# Altium integrated library TI Logic Multiplexer.IntLib: 724 symbols (part 2 of 16)
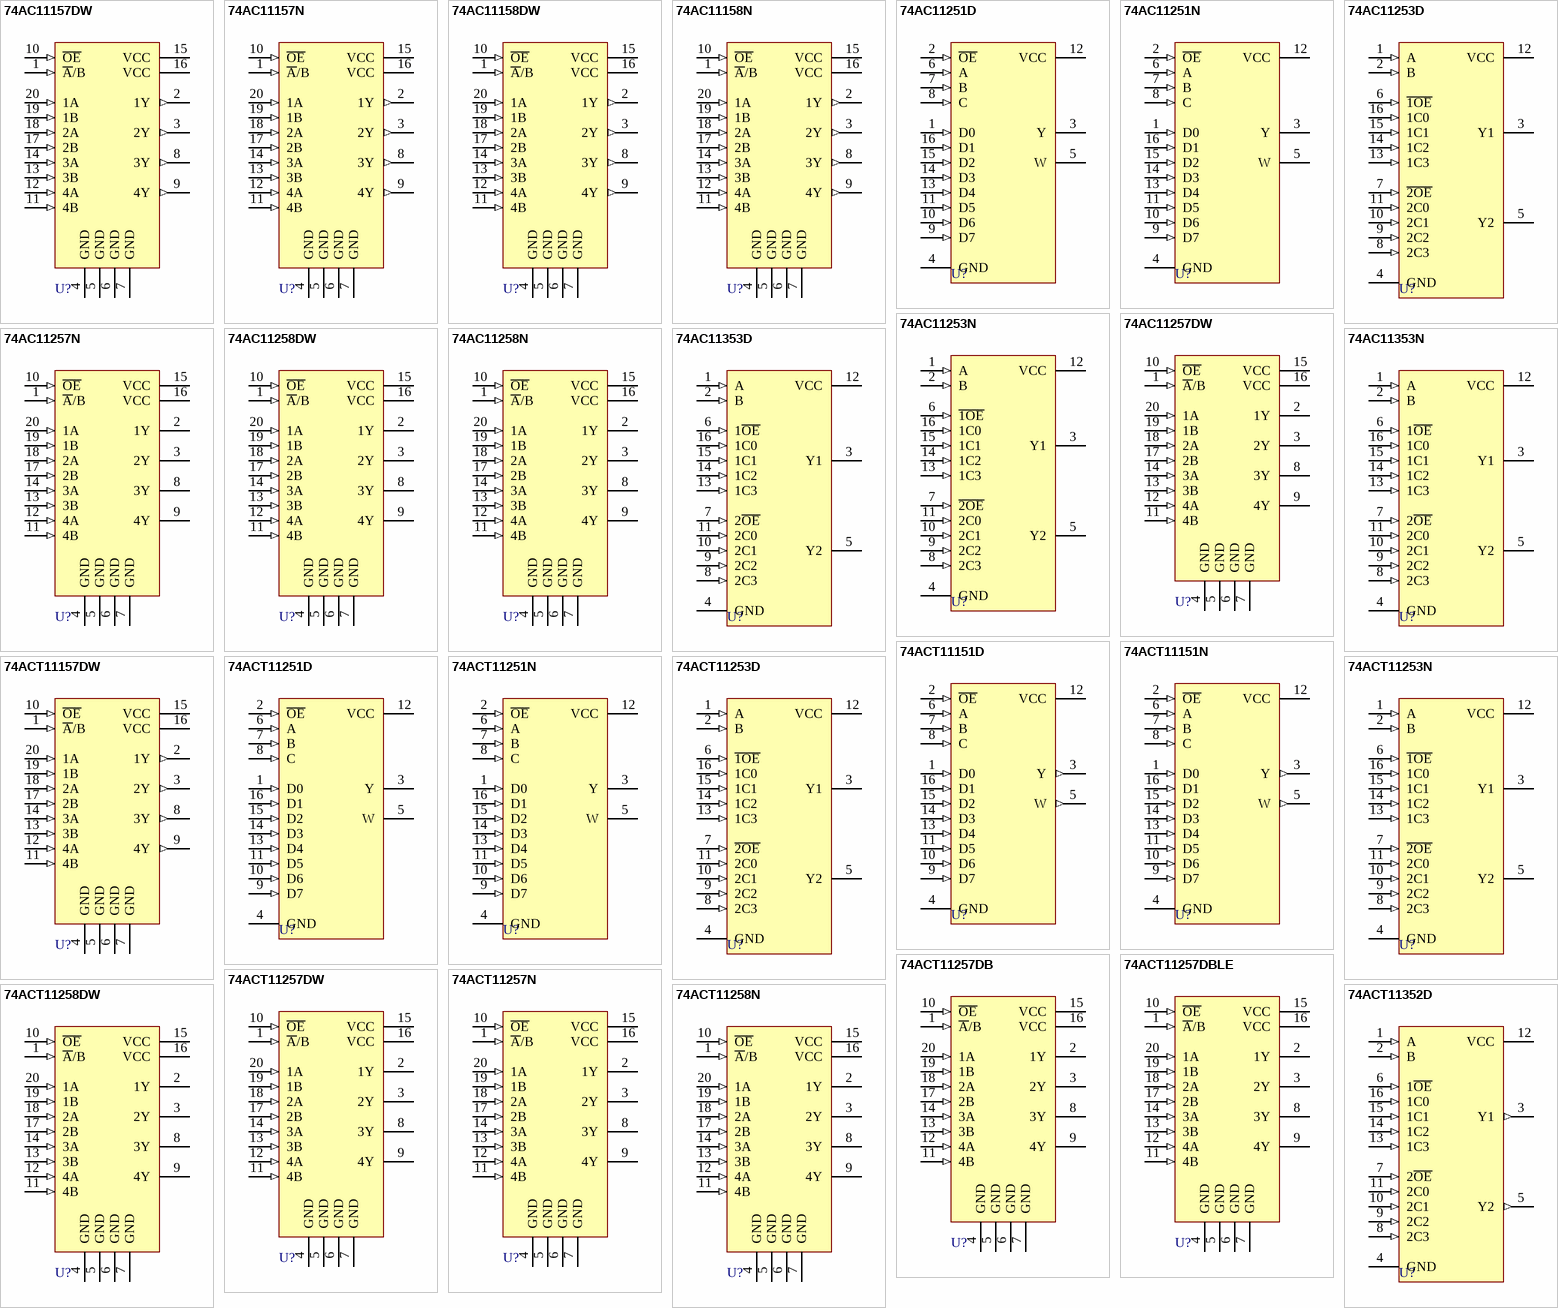
[diagram p25: symbols 74AC11157DW to 74ACT11352D]

## 74ACT11251D
designator U?
1-of-8 Data Selector/Multiplexer with 3-State Outputs; ComponentAvailability: Not Available; Published: 8-Jun-2000; LatestRevisionDate: 13-Apr-2006; LatestRevisionNote: IPC-7351 Footprint Added.; DatasheetVersion: Apr-1993; PackageVersion: Jan-1998; PackageReference: D016; Publisher: Altium Limited; PackageDescription: 16-Pin Small Outline Integrated Circuit 1.27 mm Pitch; Code_IPC: SOIC127P600-16; ComponentLink1Description: Manufacturer Link; ComponentLink1URL: http://www.ti.com/; ComponentLink2Description: Datasheet; ComponentLink2URL: http://www-s.ti.com/sc/ds/74act11251.pdf; ComponentLink3Description: Discontinuation Notice; ComponentLink3URL: http://focus.ti.com/pdfs/mltry/obsolete.pdf
footprint D016_N (SOIC, 16-Leads, Body 9.9x3.9mm, Pitch 1.27mm, IPC Medium Density)
footprint D016_L (SOIC, 16-Leads, Body 9.9x3.9mm, Pitch 1.27mm, IPC High Density)
footprint D016_M (SOIC, 16-Leads, Body 9.9x3.9mm, Pitch 1.27mm, IPC Low Density)
3D model D016 (16-Pin Small Outline Integrated Circuit 1.27 mm Pitch)
signal-integrity model 74ACT11251D
pins: 1 D0 (in), 2 ~{OE} (in), 3 Y (hiz), 4 GND (power), 5 W (hiz), 6 A (in), 7 B (in), 8 C (in), 9 D7 (in), 10 D6 (in), 11 D5 (in), 12 VCC (power), 13 D4 (in), 14 D3 (in), 15 D2 (in), 16 D1 (in)

## 74ACT11251N
designator U?
1-of-8 Data Selector/Multiplexer with 3-State Outputs; ComponentAvailability: Not Available; Published: 8-Jun-2000; LatestRevisionDate: 04-Mar-2005; LatestRevisionNote: Stylized 3D Model Added.; DatasheetVersion: Apr-1993; PackageVersion: Oct-1995; PackageReference: N016; Publisher: Altium Limited; PackageDescription: DIP; 16 Leads; Row Spacing 7.62 mm; Pitch 2.54 mm; Code_JEDEC: MS-001-BB; ComponentLink1Description: Manufacturer Link; ComponentLink1URL: http://www.ti.com/; ComponentLink2Description: Datasheet; ComponentLink2URL: http://www-s.ti.com/sc/ds/74act11251.pdf; ComponentLink3Description: Discontinuation Notice; ComponentLink3URL: http://focus.ti.com/pdfs/mltry/obsolete.pdf
footprint N016 (DIP; 16 Leads; Row Spacing 7.62 mm; Pitch 2.54 mm)
3D model N016 (DIP; 16 Leads; Row Spacing 7.62 mm; Pitch 2.54 mm)
signal-integrity model 74ACT11251N
pins: 1 D0 (in), 2 ~{OE} (in), 3 Y (hiz), 4 GND (power), 5 W (hiz), 6 A (in), 7 B (in), 8 C (in), 9 D7 (in), 10 D6 (in), 11 D5 (in), 12 VCC (power), 13 D4 (in), 14 D3 (in), 15 D2 (in), 16 D1 (in)

## 74ACT11253D
designator U?
Dual 1-of-4 Data Selector/Multiplexer with 3-State Outputs; ComponentAvailability: Not Available; Published: 8-Jun-2000; LatestRevisionDate: 13-Apr-2006; LatestRevisionNote: IPC-7351 Footprint Added.; DatasheetVersion: Apr-1993; PackageVersion: Jan-1998; PackageReference: D016; Publisher: Altium Limited; PackageDescription: 16-Pin Small Outline Integrated Circuit 1.27 mm Pitch; Code_IPC: SOIC127P600-16; ComponentLink1Description: Manufacturer Link; ComponentLink1URL: http://www.ti.com/; ComponentLink2Description: Datasheet; ComponentLink2URL: http://www-s.ti.com/sc/ds/74act11253.pdf; ComponentLink3Description: Discontinuation Notice; ComponentLink3URL: http://focus.ti.com/pdfs/mltry/obsolete.pdf
footprint D016_N (SOIC, 16-Leads, Body 9.9x3.9mm, Pitch 1.27mm, IPC Medium Density)
footprint D016_L (SOIC, 16-Leads, Body 9.9x3.9mm, Pitch 1.27mm, IPC High Density)
footprint D016_M (SOIC, 16-Leads, Body 9.9x3.9mm, Pitch 1.27mm, IPC Low Density)
3D model D016 (16-Pin Small Outline Integrated Circuit 1.27 mm Pitch)
signal-integrity model 74ACT11253D
pins: 1 A (in), 2 B (in), 3 Y1 (hiz), 4 GND (power), 5 Y2 (hiz), 6 ~{1OE} (in), 7 ~{2OE} (in), 8 2C3 (in), 9 2C2 (in), 10 2C1 (in), 11 2C0 (in), 12 VCC (power), 13 1C3 (in), 14 1C2 (in), 15 1C1 (in), 16 1C0 (in)

## 74ACT11253N
designator U?
Dual 1-of-4 Data Selector/Multiplexer with 3-State Outputs; ComponentAvailability: Not Available; Published: 8-Jun-2000; LatestRevisionDate: 04-Mar-2005; LatestRevisionNote: Stylized 3D Model Added.; DatasheetVersion: Apr-1993; PackageVersion: Oct-1995; PackageReference: N016; Publisher: Altium Limited; PackageDescription: DIP; 16 Leads; Row Spacing 7.62 mm; Pitch 2.54 mm; Code_JEDEC: MS-001-BB; ComponentLink1Description: Manufacturer Link; ComponentLink1URL: http://www.ti.com/; ComponentLink2Description: Datasheet; ComponentLink2URL: http://www-s.ti.com/sc/ds/74act11253.pdf; ComponentLink3Description: Discontinuation Notice; ComponentLink3URL: http://focus.ti.com/pdfs/mltry/obsolete.pdf
footprint N016 (DIP; 16 Leads; Row Spacing 7.62 mm; Pitch 2.54 mm)
3D model N016 (DIP; 16 Leads; Row Spacing 7.62 mm; Pitch 2.54 mm)
signal-integrity model 74ACT11253N
pins: 1 A (in), 2 B (in), 3 Y1 (hiz), 4 GND (power), 5 Y2 (hiz), 6 ~{1OE} (in), 7 ~{2OE} (in), 8 2C3 (in), 9 2C2 (in), 10 2C1 (in), 11 2C0 (in), 12 VCC (power), 13 1C3 (in), 14 1C2 (in), 15 1C1 (in), 16 1C0 (in)

## 74ACT11257DB
designator U?
Quadruple 2-Line to 1-Line Data Selector/Multiplexer with 3-State Outputs; Published: 8-Jun-2000; LatestRevisionDate: 29-Mar-2007; LatestRevisionNote: IPC-7351 Footprint Added.; DatasheetVersion: Apr-1996; PackageVersion: May-1999; PackageReference: DB020; Publisher: Altium Limited; PackageDescription: 20-Pin Plastic Small Outline Package 0.65 mm Pitch; Code_JEDEC: MO-150-AE; Code_IPC: SOP65P780-20; ComponentLink1Description: Manufacturer Link; ComponentLink1URL: http://www.ti.com/; ComponentLink2Description: Datasheet; ComponentLink2URL: http://www-s.ti.com/sc/ds/74act11257.pdf
footprint DB020_N (SOP, 20-Leads, Body 7.2x5.3mm, Pitch 0.65mm, IPC Medium Density)
footprint DB020_L (SOP, 20-Leads, Body 7.2x5.3mm, Pitch 0.65mm, IPC High Density)
footprint DB020_M (SOP, 20-Leads, Body 7.2x5.3mm, Pitch 0.65mm, IPC Low Density)
3D model DB020 (20-Pin Plastic Small Outline Package 0.65 mm Pitch)
signal-integrity model 74ACT11257DB
pins: 1 ~{A}/B (in), 2 1Y (hiz), 3 2Y (hiz), 4 GND (power), 5 GND (power), 6 GND (power), 7 GND (power), 8 3Y (hiz), 9 4Y (hiz), 10 ~{OE} (in), 11 4B (in), 12 4A (in), 13 3B (in), 14 3A (in), 15 VCC (power), 16 VCC (power), 17 2B (in), 18 2A (in), 19 1B (in), 20 1A (in)

## 74ACT11257DBLE
designator U?
Quadruple 2-Line to 1-Line Data Selector/Multiplexer with 3-State Outputs; Published: 8-Jun-2000; LatestRevisionDate: 29-Mar-2007; LatestRevisionNote: IPC-7351 Footprint Added.; DatasheetVersion: Apr-1996; PackageVersion: May-1999; PackageReference: DB020; Publisher: Altium Limited; PackageDescription: 20-Pin Plastic Small Outline Package 0.65 mm Pitch; Code_JEDEC: MO-150-AE; Code_IPC: SOP65P780-20; ComponentLink1Description: Manufacturer Link; ComponentLink1URL: http://www.ti.com/; ComponentLink2Description: Datasheet; ComponentLink2URL: http://www-s.ti.com/sc/ds/74act11257.pdf
footprint DB020_N (SOP, 20-Leads, Body 7.2x5.3mm, Pitch 0.65mm, IPC Medium Density)
footprint DB020_L (SOP, 20-Leads, Body 7.2x5.3mm, Pitch 0.65mm, IPC High Density)
footprint DB020_M (SOP, 20-Leads, Body 7.2x5.3mm, Pitch 0.65mm, IPC Low Density)
3D model DB020 (20-Pin Plastic Small Outline Package 0.65 mm Pitch)
signal-integrity model 74ACT11257DBLE
pins: 1 ~{A}/B (in), 2 1Y (hiz), 3 2Y (hiz), 4 GND (power), 5 GND (power), 6 GND (power), 7 GND (power), 8 3Y (hiz), 9 4Y (hiz), 10 ~{OE} (in), 11 4B (in), 12 4A (in), 13 3B (in), 14 3A (in), 15 VCC (power), 16 VCC (power), 17 2B (in), 18 2A (in), 19 1B (in), 20 1A (in)

## 74ACT11257DW
designator U?
Quadruple 2-Line to 1-Line Data Selector/Multiplexer with 3-State Outputs; Published: 8-Jun-2000; LatestRevisionDate: 13-Apr-2006; LatestRevisionNote: IPC-7351 Footprint Added.; DatasheetVersion: Apr-1996; PackageVersion: Mar-2000; PackageReference: DW020; Publisher: Altium Limited; PackageDescription: 20-Pin Plastic Small Outline Integrated Circuit 1.27 mm Pitch; Code_JEDEC: MS-013; Code_IPC: SOIC127P1030-20; ComponentLink1Description: Manufacturer Link; ComponentLink1URL: http://www.ti.com/; ComponentLink2Description: Datasheet; ComponentLink2URL: http://www-s.ti.com/sc/ds/74act11257.pdf
footprint DW020_N (SOIC, 20-Leads, Body 12.8x7.5mm, Pitch 1.27mm, IPC Medium Density)
footprint DW020_L (SOIC, 20-Leads, Body 12.8x7.5mm, Pitch 1.27mm, IPC High Density)
footprint DW020_M (SOIC, 20-Leads, Body 12.8x7.5mm, Pitch 1.27mm, IPC Low Density)
3D model DW020 (20-Pin Plastic Small Outline Integrated Circuit 1.27 mm Pitch)
signal-integrity model 74ACT11257DW
pins: 1 ~{A}/B (in), 2 1Y (hiz), 3 2Y (hiz), 4 GND (power), 5 GND (power), 6 GND (power), 7 GND (power), 8 3Y (hiz), 9 4Y (hiz), 10 ~{OE} (in), 11 4B (in), 12 4A (in), 13 3B (in), 14 3A (in), 15 VCC (power), 16 VCC (power), 17 2B (in), 18 2A (in), 19 1B (in), 20 1A (in)

## 74ACT11257N
designator U?
Quadruple 2-Line to 1-Line Data Selector/Multiplexer with 3-State Outputs; Published: 8-Jun-2000; LatestRevisionDate: 04-Mar-2005; LatestRevisionNote: Stylized 3D Model Added.; DatasheetVersion: Apr-1996; PackageVersion: Oct-1995; PackageReference: N020; Publisher: Altium Limited; PackageDescription: DIP; 20 Leads; Row Spacing 7.62 mm; Pitch 2.54 mm; ComponentLink1Description: Manufacturer Link; ComponentLink1URL: http://www.ti.com/; ComponentLink2Description: Datasheet; ComponentLink2URL: http://www-s.ti.com/sc/ds/74act11257.pdf
footprint N020 (DIP; 20 Leads; Row Spacing 7.62 mm; Pitch 2.54 mm)
3D model J020 (DIP; 20 Leads; Row Spacing 7.62 mm; Pitch 2.54 mm)
signal-integrity model 74ACT11257N
pins: 1 ~{A}/B (in), 2 1Y (hiz), 3 2Y (hiz), 4 GND (power), 5 GND (power), 6 GND (power), 7 GND (power), 8 3Y (hiz), 9 4Y (hiz), 10 ~{OE} (in), 11 4B (in), 12 4A (in), 13 3B (in), 14 3A (in), 15 VCC (power), 16 VCC (power), 17 2B (in), 18 2A (in), 19 1B (in), 20 1A (in)

## 74ACT11258DW
designator U?
Quadruple 2-Line to 1-Line Data Selector/Multiplexer with 3-State Outputs; ComponentAvailability: Not Available; Published: 8-Jun-2000; LatestRevisionDate: 13-Apr-2006; LatestRevisionNote: IPC-7351 Footprint Added.; DatasheetVersion: Apr-1993; PackageVersion: Mar-2000; PackageReference: DW020; Publisher: Altium Limited; PackageDescription: 20-Pin Plastic Small Outline Integrated Circuit 1.27 mm Pitch; Code_JEDEC: MS-013; Code_IPC: SOIC127P1030-20; ComponentLink1Description: Manufacturer Link; ComponentLink1URL: http://www.ti.com/; ComponentLink2Description: Datasheet; ComponentLink2URL: http://www-s.ti.com/sc/ds/74act11258.pdf; ComponentLink3Description: Discontinuation Notice; ComponentLink3URL: http://focus.ti.com/pdfs/mltry/obsolete.pdf
footprint DW020_N (SOIC, 20-Leads, Body 12.8x7.5mm, Pitch 1.27mm, IPC Medium Density)
footprint DW020_L (SOIC, 20-Leads, Body 12.8x7.5mm, Pitch 1.27mm, IPC High Density)
footprint DW020_M (SOIC, 20-Leads, Body 12.8x7.5mm, Pitch 1.27mm, IPC Low Density)
3D model DW020 (20-Pin Plastic Small Outline Integrated Circuit 1.27 mm Pitch)
signal-integrity model 74ACT11258DW
pins: 1 ~{A}/B (in), 2 1Y (hiz), 3 2Y (hiz), 4 GND (power), 5 GND (power), 6 GND (power), 7 GND (power), 8 3Y (hiz), 9 4Y (hiz), 10 ~{OE} (in), 11 4B (in), 12 4A (in), 13 3B (in), 14 3A (in), 15 VCC (power), 16 VCC (power), 17 2B (in), 18 2A (in), 19 1B (in), 20 1A (in)

## 74ACT11258N
designator U?
Quadruple 2-Line to 1-Line Data Selector/Multiplexer with 3-State Outputs; ComponentAvailability: Not Available; Published: 8-Jun-2000; LatestRevisionDate: 04-Mar-2005; LatestRevisionNote: Stylized 3D Model Added.; DatasheetVersion: Apr-1993; PackageVersion: Oct-1995; PackageReference: N020; Publisher: Altium Limited; PackageDescription: DIP; 20 Leads; Row Spacing 7.62 mm; Pitch 2.54 mm; ComponentLink1Description: Manufacturer Link; ComponentLink1URL: http://www.ti.com/; ComponentLink2Description: Datasheet; ComponentLink2URL: http://www-s.ti.com/sc/ds/74act11258.pdf; ComponentLink3Description: Discontinuation Notice; ComponentLink3URL: http://focus.ti.com/pdfs/mltry/obsolete.pdf
footprint N020 (DIP; 20 Leads; Row Spacing 7.62 mm; Pitch 2.54 mm)
3D model J020 (DIP; 20 Leads; Row Spacing 7.62 mm; Pitch 2.54 mm)
signal-integrity model 74ACT11258N
pins: 1 ~{A}/B (in), 2 1Y (hiz), 3 2Y (hiz), 4 GND (power), 5 GND (power), 6 GND (power), 7 GND (power), 8 3Y (hiz), 9 4Y (hiz), 10 ~{OE} (in), 11 4B (in), 12 4A (in), 13 3B (in), 14 3A (in), 15 VCC (power), 16 VCC (power), 17 2B (in), 18 2A (in), 19 1B (in), 20 1A (in)

## 74ACT11352D
designator U?
Dual 4-Line to 1-Line Data Selector/Multiplexer; ComponentAvailability: Not Available; Published: 8-Jun-2000; LatestRevisionDate: 13-Apr-2006; LatestRevisionNote: IPC-7351 Footprint Added.; DatasheetVersion: Apr-1993; PackageVersion: Jan-1998; PackageReference: D016; Publisher: Altium Limited; PackageDescription: 16-Pin Small Outline Integrated Circuit 1.27 mm Pitch; Code_IPC: SOIC127P600-16; ComponentLink1Description: Manufacturer Link; ComponentLink1URL: http://www.ti.com/; ComponentLink2Description: Datasheet; ComponentLink2URL: http://www-s.ti.com/sc/ds/74act11352.pdf; ComponentLink3Description: Discontinuation Notice; ComponentLink3URL: http://focus.ti.com/pdfs/mltry/obsolete.pdf
footprint D016_N (SOIC, 16-Leads, Body 9.9x3.9mm, Pitch 1.27mm, IPC Medium Density)
footprint D016_L (SOIC, 16-Leads, Body 9.9x3.9mm, Pitch 1.27mm, IPC High Density)
footprint D016_M (SOIC, 16-Leads, Body 9.9x3.9mm, Pitch 1.27mm, IPC Low Density)
3D model D016 (16-Pin Small Outline Integrated Circuit 1.27 mm Pitch)
signal-integrity model 74ACT11352D
pins: 1 A (in), 2 B (in), 3 Y1 (out), 4 GND (power), 5 Y2 (out), 6 1~{OE} (in), 7 2~{OE} (in), 8 2C3 (in), 9 2C2 (in), 10 2C1 (in), 11 2C0 (in), 12 VCC (power), 13 1C3 (in), 14 1C2 (in), 15 1C1 (in), 16 1C0 (in)

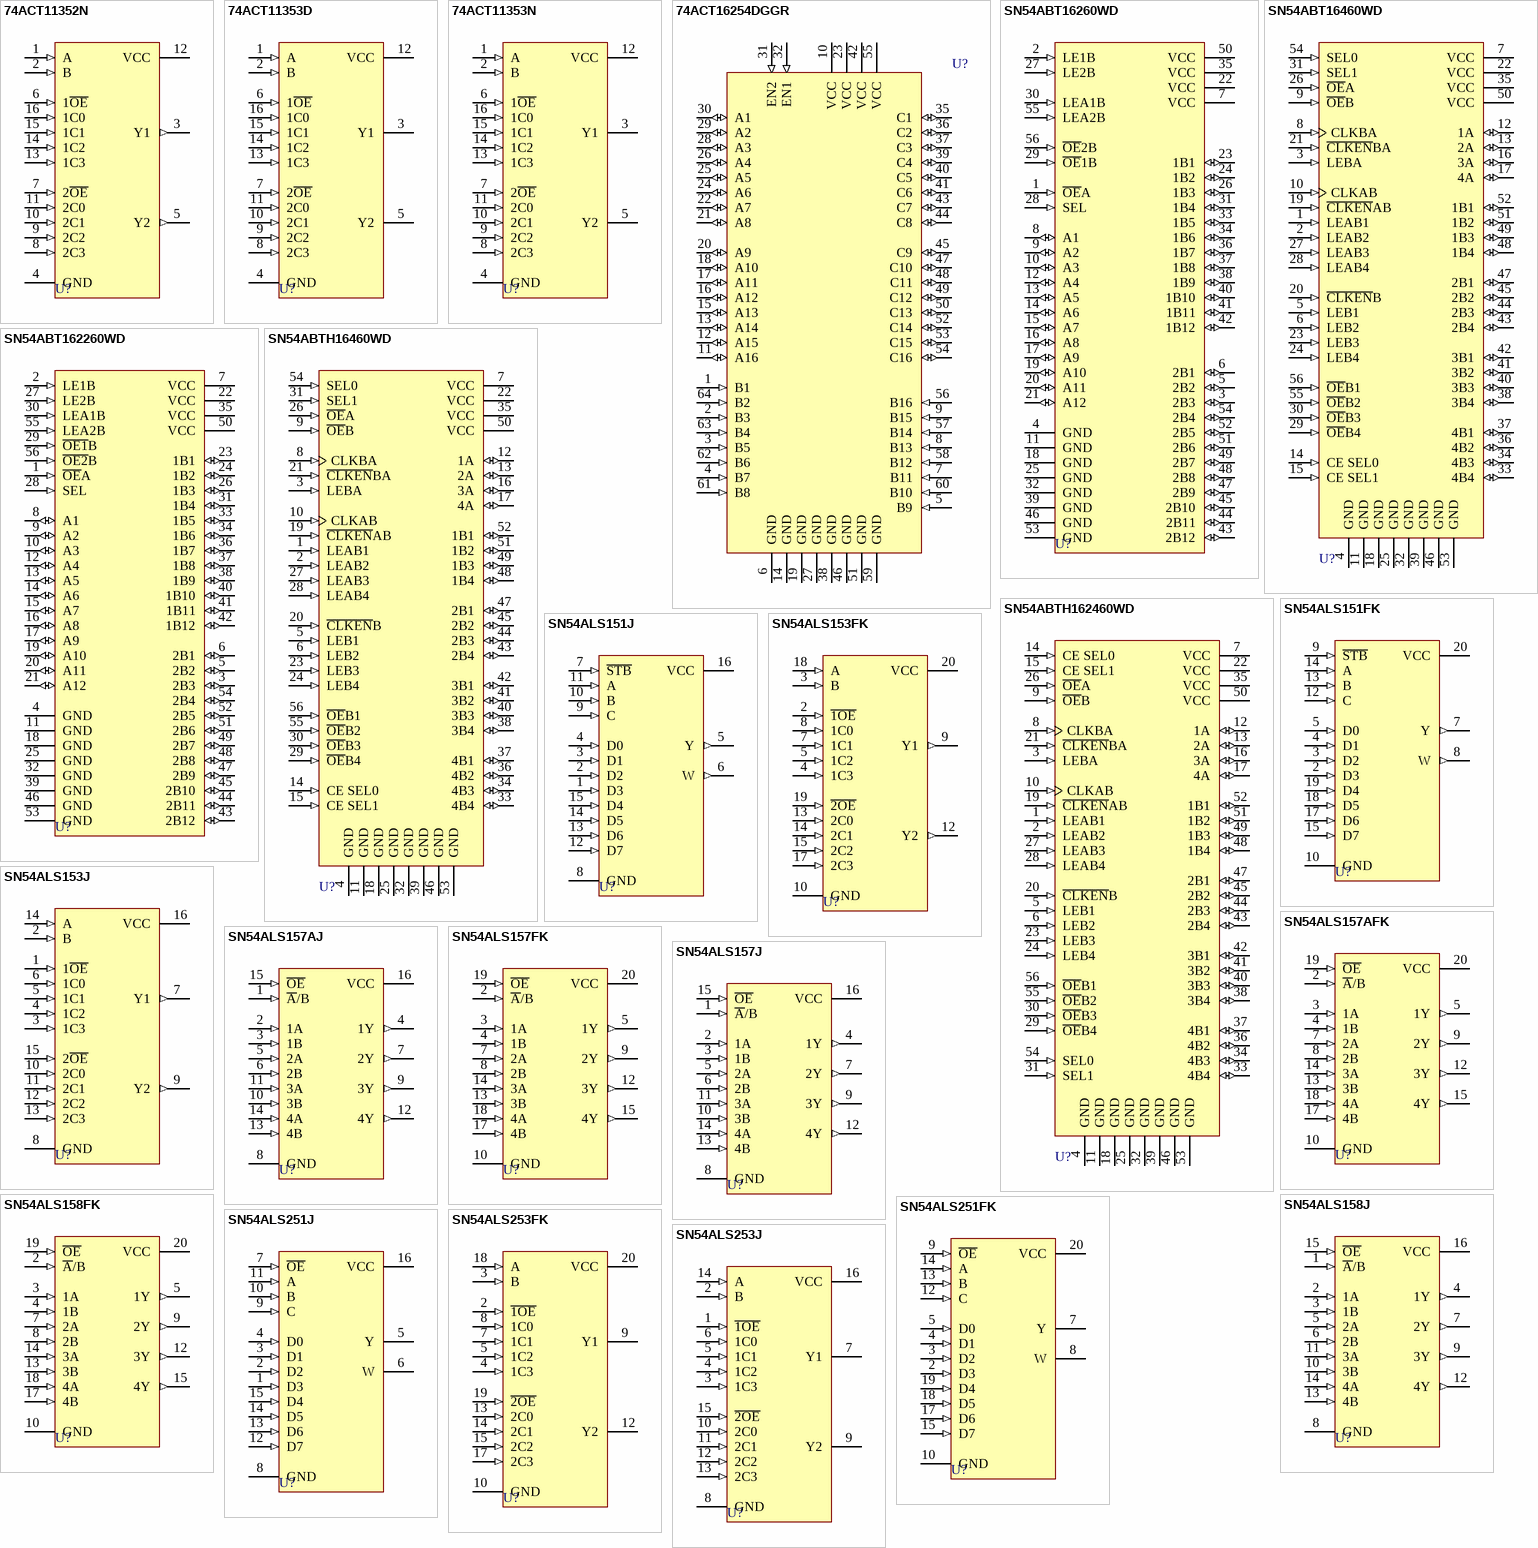
[diagram p2: symbols 74ACT11352N to SN54ALS253J]

## 74ACT11352N
designator U?
Dual 4-Line to 1-Line Data Selector/Multiplexer; ComponentAvailability: Not Available; Published: 8-Jun-2000; LatestRevisionDate: 04-Mar-2005; LatestRevisionNote: Stylized 3D Model Added.; DatasheetVersion: Apr-1993; PackageVersion: Oct-1995; PackageReference: N016; Publisher: Altium Limited; PackageDescription: DIP; 16 Leads; Row Spacing 7.62 mm; Pitch 2.54 mm; Code_JEDEC: MS-001-BB; ComponentLink1Description: Manufacturer Link; ComponentLink1URL: http://www.ti.com/; ComponentLink2Description: Datasheet; ComponentLink2URL: http://www-s.ti.com/sc/ds/74act11352.pdf; ComponentLink3Description: Discontinuation Notice; ComponentLink3URL: http://focus.ti.com/pdfs/mltry/obsolete.pdf
footprint N016 (DIP; 16 Leads; Row Spacing 7.62 mm; Pitch 2.54 mm)
3D model N016 (DIP; 16 Leads; Row Spacing 7.62 mm; Pitch 2.54 mm)
signal-integrity model 74ACT11352N
pins: 1 A (in), 2 B (in), 3 Y1 (out), 4 GND (power), 5 Y2 (out), 6 1~{OE} (in), 7 2~{OE} (in), 8 2C3 (in), 9 2C2 (in), 10 2C1 (in), 11 2C0 (in), 12 VCC (power), 13 1C3 (in), 14 1C2 (in), 15 1C1 (in), 16 1C0 (in)

## 74ACT11353D
designator U?
Dual 1-of-4 Data Selector/Multiplexer with 3- State Outputs; ComponentAvailability: Not Available; Published: 8-Jun-2000; LatestRevisionDate: 13-Apr-2006; LatestRevisionNote: IPC-7351 Footprint Added.; DatasheetVersion: Mar-1990; PackageVersion: Jan-1998; PackageReference: D016; Publisher: Altium Limited; PackageDescription: 16-Pin Small Outline Integrated Circuit 1.27 mm Pitch; Code_IPC: SOIC127P600-16; ComponentLink1Description: Manufacturer Link; ComponentLink1URL: http://www.ti.com/; ComponentLink2Description: Datasheet; ComponentLink2URL: http://www-s.ti.com/sc/ds/74act11353.pdf; ComponentLink3Description: Discontinuation Notice; ComponentLink3URL: http://focus.ti.com/pdfs/mltry/obsolete.pdf
footprint D016_N (SOIC, 16-Leads, Body 9.9x3.9mm, Pitch 1.27mm, IPC Medium Density)
footprint D016_L (SOIC, 16-Leads, Body 9.9x3.9mm, Pitch 1.27mm, IPC High Density)
footprint D016_M (SOIC, 16-Leads, Body 9.9x3.9mm, Pitch 1.27mm, IPC Low Density)
3D model D016 (16-Pin Small Outline Integrated Circuit 1.27 mm Pitch)
signal-integrity model 74ACT11353D
pins: 1 A (in), 2 B (in), 3 Y1 (hiz), 4 GND (power), 5 Y2 (hiz), 6 1~{OE} (in), 7 2~{OE} (in), 8 2C3 (in), 9 2C2 (in), 10 2C1 (in), 11 2C0 (in), 12 VCC (power), 13 1C3 (in), 14 1C2 (in), 15 1C1 (in), 16 1C0 (in)

## 74ACT11353N
designator U?
Dual 1-of-4 Data Selector/Multiplexer with 3- State Outputs; ComponentAvailability: Not Available; Published: 8-Jun-2000; LatestRevisionDate: 04-Mar-2005; LatestRevisionNote: Stylized 3D Model Added.; DatasheetVersion: Mar-1990; PackageVersion: Oct-1995; PackageReference: N016D; Publisher: Altium Limited; PackageDescription: DIP; 16 Leads; Row Spacing 7.62 mm; Pitch 2.54 mm; Code_JEDEC: MS-001-BB; ComponentLink1Description: Manufacturer Link; ComponentLink1URL: http://www.ti.com/; ComponentLink2Description: Datasheet; ComponentLink2URL: http://www-s.ti.com/sc/ds/74act11353.pdf; ComponentLink3Description: Discontinuation Notice; ComponentLink3URL: http://focus.ti.com/pdfs/mltry/obsolete.pdf
footprint N016D (DIP; 16 Leads; Row Spacing 7.62 mm; Pitch 2.54 mm)
3D model N016 (DIP; 16 Leads; Row Spacing 7.62 mm; Pitch 2.54 mm)
signal-integrity model 74ACT11353N
pins: 1 A (in), 2 B (in), 3 Y1 (hiz), 4 GND (power), 5 Y2 (hiz), 6 1~{OE} (in), 7 2~{OE} (in), 8 2C3 (in), 9 2C2 (in), 10 2C1 (in), 11 2C0 (in), 12 VCC (power), 13 1C3 (in), 14 1C2 (in), 15 1C1 (in), 16 1C0 (in)

## 74ACT16254DGGR
designator U?
16-Bit Address/Data Multiplexer with 3-State Outputs; Note: Pins No 33 and 34 are not connected; ComponentAvailability: Not Available; Published: 8-Jun-2000; LatestRevisionDate: 29-Mar-2007; LatestRevisionNote: IPC-7351 Footprint Added.; DatasheetVersion: Nov-1995; PackageVersion: Jan-1998; PackageReference: DGG064; Publisher: Altium Limited; PackageDescription: 64-Pin Thin Shrink Small Outline Package 0.5 mm Pitch; Code_JEDEC: MO-153; Code_IPC: TSSOP50P810-64; ComponentLink1Description: Manufacturer Link; ComponentLink1URL: http://www.ti.com/; ComponentLink2Description: Datasheet; ComponentLink2URL: http://www-s.ti.com/sc/ds/74act16254.pdf
footprint DGG064_N (TSSOP, 64-Leads, Body 17x6.1mm, Pitch 0.5mm, IPC Medium Density)
footprint DGG064_L (TSSOP, 64-Leads, Body 17x6.1mm, Pitch 0.5mm, IPC High Density)
footprint DGG064_M (TSSOP, 64-Leads, Body 17x6.1mm, Pitch 0.5mm, IPC Low Density)
3D model DGG064 (64-Pin Thin Shrink Small Outline Package 0.5 mm Pitch)
signal-integrity model 74ACT16254DGGR
pins: 1 B1 (in), 2 B3 (in), 3 B5 (in), 4 B7 (in), 5 B9 (in), 6 GND (power), 7 B11 (in), 8 B13 (in), 9 B15 (in), 10 VCC (power), 11 A16 (io), 12 A15 (io), 13 A14 (io), 14 GND (power), 15 A13 (io), 16 A12 (io), 17 A11 (io), 18 A10 (io), 19 GND (power), 20 A9 (io), 21 A8 (io), 22 A7 (io), 23 VCC (power), 24 A6 (io), 25 A5 (io), 26 A4 (io), 27 GND (power), 28 A3 (io), 29 A2 (io), 30 A1 (io), 31 EN2 (in), 32 EN1 (in), 35 C1 (io), 36 C2 (io), 37 C3 (io), 38 GND (power), 39 C4 (io), 40 C5 (io), 41 C6 (io), 42 VCC (power), 43 C7 (io), 44 C8 (io), 45 C9 (io), 46 GND (power), 47 C10 (io), 48 C11 (io), 49 C12 (io), 50 C13 (io), 51 GND (power), 52 C14 (io), 53 C15 (io), 54 C16 (io), 55 VCC (power), 56 B16 (in), 57 B14 (in), 58 B12 (in), 59 GND (power), 60 B10 (in), 61 B8 (in), 62 B6 (in), 63 B4 (in), 64 B2 (in)

## SN54ABT16260WD
designator U?
12-Bit to 24-Bit Multiplexed D-Type Latch with 3-State Outputs; ComponentAvailability: Not Available; Published: 8-Jun-2000; LatestRevisionDate: 04-Mar-2005; LatestRevisionNote: Stylized 3D Model Added.; DatasheetVersion: May-1997; PackageVersion: Jan-1998; PackageReference: WD056; Publisher: Altium Limited; PackageDescription: DFP; 56 Leads; Body 18.8 x 9.9 mm (LxW max); Pitch 0.635 mm; Code_JEDEC: MO-146-AB; ComponentLink1Description: Manufacturer Link; ComponentLink1URL: http://www.ti.com/; ComponentLink2Description: Datasheet; ComponentLink2URL: http://www-s.ti.com/sc/ds/sn54abt16260.pdf; ComponentLink3Description: Discontinuation Notice; ComponentLink3URL: http://focus.ti.com/pdfs/mltry/obsolete.pdf
footprint WD056 (DFP; 56 Leads; Body 18.8 x 9.9 mm (LxW max); Pitch 0.635 mm)
3D model WD056 (DFP; 56 Leads; Body 18.8 x 9.9 mm (LxW max); Pitch 0.635 mm)
signal-integrity model SN54ABT16260WD
pins: 1 ~{OE}A (in), 2 LE1B (in), 3 2B3 (io), 4 GND (power), 5 2B2 (io), 6 2B1 (io), 7 VCC (power), 8 A1 (io), 9 A2 (io), 10 A3 (io), 11 GND (power), 12 A4 (io), 13 A5 (io), 14 A6 (io), 15 A7 (io), 16 A8 (io), 17 A9 (io), 18 GND (power), 19 A10 (io), 20 A11 (io), 21 A12 (io), 22 VCC (power), 23 1B1 (io), 24 1B2 (io), 25 GND (power), 26 1B3 (io), 27 LE2B (in), 28 SEL (in), 29 ~{OE}1B (in), 30 LEA1B (in), 31 1B4 (io), 32 GND (power), 33 1B5 (io), 34 1B6 (io), 35 VCC (power), 36 1B7 (io), 37 1B8 (io), 38 1B9 (io), 39 GND (power), 40 1B10 (io), 41 1B11 (io), 42 1B12 (io), 43 2B12 (io), 44 2B11 (io), 45 2B10 (io), 46 GND (power), 47 2B9 (io), 48 2B8 (io), 49 2B7 (io), 50 VCC (power), 51 2B6 (io), 52 2B5 (io), 53 GND (power), 54 2B4 (io), 55 LEA2B (in), 56 ~{OE}2B (in)

## SN54ABT16460WD
designator U?
4-to-1 Multiplexed/Demultiplexed Transceivers with 3-State Outputs; Published: 8-Jun-2000; LatestRevisionDate: 04-Mar-2005; LatestRevisionNote: Stylized 3D Model Added.; DatasheetVersion: Jul-1994; PackageVersion: Jan-1998; PackageReference: WD056; Publisher: Altium Limited; PackageDescription: DFP; 56 Leads; Body 18.8 x 9.9 mm (LxW max); Pitch 0.635 mm; Code_JEDEC: MO-146-AB; ComponentLink1Description: Manufacturer Link; ComponentLink1URL: http://www.ti.com/
footprint WD056 (DFP; 56 Leads; Body 18.8 x 9.9 mm (LxW max); Pitch 0.635 mm)
3D model WD056 (DFP; 56 Leads; Body 18.8 x 9.9 mm (LxW max); Pitch 0.635 mm)
signal-integrity model SN54ABT16460WD
pins: 1 LEAB1 (in), 2 LEAB2 (in), 3 LEBA (in), 4 GND (power), 5 LEB1 (in), 6 LEB2 (in), 7 VCC (power), 8 CLKBA (in), 9 ~{OE}B (in), 10 CLKAB (in), 11 GND (power), 12 1A (io), 13 2A (io), 14 CE SEL0 (in), 15 CE SEL1 (in), 16 3A (io), 17 4A (io), 18 GND (power), 19 ~{CLKEN}AB (in), 20 ~{CLKEN}B (in), 21 ~{CLKEN}BA (in), 22 VCC (power), 23 LEB3 (in), 24 LEB4 (in), 25 GND (power), 26 ~{OE}A (in), 27 LEAB3 (in), 28 LEAB4 (in), 29 ~{OE}B4 (in), 30 ~{OE}B3 (in), 31 SEL1 (in), 32 GND (power), 33 4B4 (io), 34 4B3 (io), 35 VCC (power), 36 4B2 (io), 37 4B1 (io), 38 3B4 (io), 39 GND (power), 40 3B3 (io), 41 3B2 (io), 42 3B1 (io), 43 2B4 (io), 44 2B3 (io), 45 2B2 (io), 46 GND (power), 47 2B1 (io), 48 1B4 (io), 49 1B3 (io), 50 VCC (power), 51 1B2 (io), 52 1B1 (io), 53 GND (power), 54 SEL0 (in), 55 ~{OE}B2 (in), 56 ~{OE}B1 (in)

## SN54ABT162260WD
designator U?
12-Bit to 24-Bit Multiplexed D-Type Latch with Series-Damping Resistor and 3-State Outputs; Published: 8-Jun-2000; LatestRevisionDate: 04-Mar-2005; LatestRevisionNote: Stylized 3D Model Added.; DatasheetVersion: Jul-1994; PackageVersion: Jan-1998; PackageReference: WD056; Publisher: Altium Limited; PackageDescription: DFP; 56 Leads; Body 18.8 x 9.9 mm (LxW max); Pitch 0.635 mm; Code_JEDEC: MO-146-AB; ComponentLink1Description: Manufacturer Link; ComponentLink1URL: http://www.ti.com/
footprint WD056 (DFP; 56 Leads; Body 18.8 x 9.9 mm (LxW max); Pitch 0.635 mm)
3D model WD056 (DFP; 56 Leads; Body 18.8 x 9.9 mm (LxW max); Pitch 0.635 mm)
signal-integrity model SN54ABT162260WD
pins: 1 ~{OE}A (in), 2 LE1B (in), 3 2B3 (io), 4 GND (power), 5 2B2 (io), 6 2B1 (io), 7 VCC (power), 8 A1 (io), 9 A2 (io), 10 A3 (io), 11 GND (power), 12 A4 (io), 13 A5 (io), 14 A6 (io), 15 A7 (io), 16 A8 (io), 17 A9 (io), 18 GND (power), 19 A10 (io), 20 A11 (io), 21 A12 (io), 22 VCC (power), 23 1B1 (io), 24 1B2 (io), 25 GND (power), 26 1B3 (io), 27 LE2B (in), 28 SEL (in), 29 ~{OE1}B (in), 30 LEA1B (in), 31 1B4 (io), 32 GND (power), 33 1B5 (io), 34 1B6 (io), 35 VCC (power), 36 1B7 (io), 37 1B8 (io), 38 1B9 (io), 39 GND (power), 40 1B10 (io), 41 1B11 (io), 42 1B12 (io), 43 2B12 (io), 44 2B11 (io), 45 2B10 (io), 46 GND (power), 47 2B9 (io), 48 2B8 (io), 49 2B7 (io), 50 VCC (power), 51 2B6 (io), 52 2B5 (io), 53 GND (power), 54 2B4 (io), 55 LEA2B (in), 56 ~{OE2}B (in)

## SN54ABTH16460WD
designator U?
4-to-1 Multiplexed/Demultiplexed Transceiver with 3-State Outputs; Published: 8-Jun-2000; LatestRevisionDate: 04-Mar-2005; LatestRevisionNote: Stylized 3D Model Added.; DatasheetVersion: May-1997; PackageVersion: Jan-1998; PackageReference: WD056; Publisher: Altium Limited; PackageDescription: DFP; 56 Leads; Body 18.8 x 9.9 mm (LxW max); Pitch 0.635 mm; Code_JEDEC: MO-146-AB; ComponentLink1Description: Manufacturer Link; ComponentLink1URL: http://www.ti.com/; ComponentLink2Description: Datasheet; ComponentLink2URL: http://www-s.ti.com/sc/ds/sn74abth16460.pdf
footprint WD056 (DFP; 56 Leads; Body 18.8 x 9.9 mm (LxW max); Pitch 0.635 mm)
3D model WD056 (DFP; 56 Leads; Body 18.8 x 9.9 mm (LxW max); Pitch 0.635 mm)
pins: 1 LEAB1 (in), 2 LEAB2 (in), 3 LEBA (in), 4 GND (power), 5 LEB1 (in), 6 LEB2 (in), 7 VCC (power), 8 CLKBA (in), 9 ~{OE}B (in), 10 CLKAB (in), 11 GND (power), 12 1A (io), 13 2A (io), 14 CE SEL0 (in), 15 CE SEL1 (in), 16 3A (io), 17 4A (io), 18 GND (power), 19 ~{CLKEN}AB (in), 20 ~{CLKEN}B (in), 21 ~{CLKEN}BA (in), 22 VCC (power), 23 LEB3 (in), 24 LEB4 (in), 25 GND (power), 26 ~{OE}A (in), 27 LEAB3 (in), 28 LEAB4 (in), 29 ~{OE}B4 (in), 30 ~{OE}B3 (in), 31 SEL1 (in), 32 GND (power), 33 4B4 (io), 34 4B3 (io), 35 VCC (power), 36 4B2 (io), 37 4B1 (io), 38 3B4 (io), 39 GND (power), 40 3B3 (io), 41 3B2 (io), 42 3B1 (io), 43 2B4 (io), 44 2B3 (io), 45 2B2 (io), 46 GND (power), 47 2B1 (io), 48 1B4 (io), 49 1B3 (io), 50 VCC (power), 51 1B2 (io), 52 1B1 (io), 53 GND (power), 54 SEL0 (in), 55 ~{OE}B2 (in), 56 ~{OE}B1 (in)

## SN54ABTH162460WD
designator U?
4-to-1 Multiplexed/Demultiplexed Registered Transceiver with 3-State Outputs; Published: 8-Jun-2000; LatestRevisionDate: 04-Mar-2005; LatestRevisionNote: Stylized 3D Model Added.; DatasheetVersion: May-1997; PackageVersion: Jan-1998; PackageReference: WD056; Publisher: Altium Limited; PackageDescription: DFP; 56 Leads; Body 18.8 x 9.9 mm (LxW max); Pitch 0.635 mm; Code_JEDEC: MO-146-AB; ComponentLink1Description: Manufacturer Link; ComponentLink1URL: http://www.ti.com/; ComponentLink2Description: Datasheet; ComponentLink2URL: http://www-s.ti.com/sc/ds/sn74abth162460.pdf
footprint WD056 (DFP; 56 Leads; Body 18.8 x 9.9 mm (LxW max); Pitch 0.635 mm)
3D model WD056 (DFP; 56 Leads; Body 18.8 x 9.9 mm (LxW max); Pitch 0.635 mm)
pins: 1 LEAB1 (in), 2 LEAB2 (in), 3 LEBA (in), 4 GND (power), 5 LEB1 (in), 6 LEB2 (in), 7 VCC (power), 8 CLKBA (in), 9 ~{OE}B (in), 10 CLKAB (in), 11 GND (power), 12 1A (io), 13 2A (io), 14 CE SEL0 (in), 15 CE SEL1 (in), 16 3A (io), 17 4A (io), 18 GND (power), 19 ~{CLKEN}AB (in), 20 ~{CLKEN}B (in), 21 ~{CLKEN}BA (in), 22 VCC (power), 23 LEB3 (in), 24 LEB4 (in), 25 GND (power), 26 ~{OE}A (in), 27 LEAB3 (in), 28 LEAB4 (in), 29 ~{OE}B4 (in), 30 ~{OE}B3 (in), 31 SEL1 (in), 32 GND (power), 33 4B4 (io), 34 4B3 (io), 35 VCC (power), 36 4B2 (io), 37 4B1 (io), 38 3B4 (io), 39 GND (power), 40 3B3 (io), 41 3B2 (io), 42 3B1 (io), 43 2B4 (io), 44 2B3 (io), 45 2B2 (io), 46 GND (power), 47 2B1 (io), 48 1B4 (io), 49 1B3 (io), 50 VCC (power), 51 1B2 (io), 52 1B1 (io), 53 GND (power), 54 SEL0 (in), 55 ~{OE}B2 (in), 56 ~{OE}B1 (in)

## SN54ALS151FK
designator U?
1-of-8 Data Selector/Multiplexer; Note: Pins 1, 6, 11 and 16 are not connected and not drawn; Published: 8-Jun-2000; LatestRevisionDate: 17-Jul-2002; LatestRevisionNote: Re-released for DXP Platform.; DatasheetVersion: Dec-1994; PackageVersion: 1998; PackageReference: FK020; Publisher: Altium Limited; PackageDescription: Leadless Chip Carrier; 20 Terminals; Body 8.9 x 8.9 mm; ComponentLink1Description: Manufacturer Link; ComponentLink1URL: http://www.ti.com/; ComponentLink2Description: Datasheet; ComponentLink2URL: http://www-s.ti.com/sc/ds/sn74als151.pdf
footprint FK020 (Leadless Chip Carrier; 20 Terminals; Body 8.9 x 8.9 mm)
signal-integrity model SN54ALS151FK
pins: 2 D3 (in), 3 D2 (in), 4 D1 (in), 5 D0 (in), 7 Y (out), 8 W (out), 9 ~{STB} (in), 10 GND (power), 12 C (in), 13 B (in), 14 A (in), 15 D7 (in), 17 D6 (in), 18 D5 (in), 19 D4 (in), 20 VCC (power)

## SN54ALS151J
designator U?
1-of-8 Data Selector/Multiplexer; Published: 8-Jun-2000; LatestRevisionDate: 04-Mar-2005; LatestRevisionNote: Stylized 3D Model Added.; DatasheetVersion: Dec-1994; PackageVersion: Jun-1999; PackageReference: J016; Publisher: Altium Limited; PackageDescription: DIP; 16 Leads; Row Spacing 7.62 mm; Pitch 2.54 mm; ComponentLink1Description: Manufacturer Link; ComponentLink1URL: http://www.ti.com/; ComponentLink2Description: Datasheet; ComponentLink2URL: http://www-s.ti.com/sc/ds/sn74als151.pdf
footprint J016 (DIP; 16 Leads; Row Spacing 7.62 mm; Pitch 2.54 mm)
3D model J016 (DIP; 16 Leads; Row Spacing 7.62 mm; Pitch 2.54 mm)
signal-integrity model SN54ALS151J
pins: 1 D3 (in), 2 D2 (in), 3 D1 (in), 4 D0 (in), 5 Y (out), 6 W (out), 7 ~{STB} (in), 8 GND (power), 9 C (in), 10 B (in), 11 A (in), 12 D7 (in), 13 D6 (in), 14 D5 (in), 15 D4 (in), 16 VCC (power)

## SN54ALS153FK
designator U?
Dual 1-of-4 Data Selector/Multiplexer; Note: Pins 1, 6, 11 and 16 are not connected and not drawn; Published: 8-Jun-2000; LatestRevisionDate: 17-Jul-2002; LatestRevisionNote: Re-released for DXP Platform.; DatasheetVersion: Dec-1994; PackageVersion: 1998; PackageReference: FK020; Publisher: Altium Limited; PackageDescription: Leadless Chip Carrier; 20 Terminals; Body 8.9 x 8.9 mm; ComponentLink1Description: Manufacturer Link; ComponentLink1URL: http://www.ti.com/; ComponentLink2Description: Datasheet; ComponentLink2URL: http://www-s.ti.com/sc/ds/sn74als153.pdf
footprint FK020 (Leadless Chip Carrier; 20 Terminals; Body 8.9 x 8.9 mm)
signal-integrity model SN54ALS153FK
pins: 2 ~{1OE} (in), 3 B (in), 4 1C3 (in), 5 1C2 (in), 7 1C1 (in), 8 1C0 (in), 9 Y1 (out), 10 GND (power), 12 Y2 (out), 13 2C0 (in), 14 2C1 (in), 15 2C2 (in), 17 2C3 (in), 18 A (in), 19 ~{2OE} (in), 20 VCC (power)

## SN54ALS153J
designator U?
Dual 1-of-4 Data Selector/Multiplexer; Published: 8-Jun-2000; LatestRevisionDate: 04-Mar-2005; LatestRevisionNote: Stylized 3D Model Added.; DatasheetVersion: Dec-1994; PackageVersion: Jun-1999; PackageReference: J016; Publisher: Altium Limited; PackageDescription: DIP; 16 Leads; Row Spacing 7.62 mm; Pitch 2.54 mm; ComponentLink1Description: Manufacturer Link; ComponentLink1URL: http://www.ti.com/; ComponentLink2Description: Datasheet; ComponentLink2URL: http://www-s.ti.com/sc/ds/sn74als153.pdf
footprint J016 (DIP; 16 Leads; Row Spacing 7.62 mm; Pitch 2.54 mm)
3D model J016 (DIP; 16 Leads; Row Spacing 7.62 mm; Pitch 2.54 mm)
signal-integrity model SN54ALS153J
pins: 1 1~{OE} (in), 2 B (in), 3 1C3 (in), 4 1C2 (in), 5 1C1 (in), 6 1C0 (in), 7 Y1 (out), 8 GND (power), 9 Y2 (out), 10 2C0 (in), 11 2C1 (in), 12 2C2 (in), 13 2C3 (in), 14 A (in), 15 2~{OE} (in), 16 VCC (power)

## SN54ALS157AFK
designator U?
Quadruple 1-of-2 Data Selector/Multiplexer; Note: Pins 1, 6, 11 and 16 are not connected and not drawn; Published: 8-Jun-2000; LatestRevisionDate: 17-Jul-2002; LatestRevisionNote: Re-released for DXP Platform.; DatasheetVersion: Dec-1994; PackageVersion: 1998; PackageReference: FK020; Publisher: Altium Limited; PackageDescription: Leadless Chip Carrier; 20 Terminals; Body 8.9 x 8.9 mm; ComponentLink1Description: Manufacturer Link; ComponentLink1URL: http://www.ti.com/; ComponentLink2Description: Datasheet; ComponentLink2URL: http://www-s.ti.com/sc/ds/sn74als157a.pdf
footprint FK020 (Leadless Chip Carrier; 20 Terminals; Body 8.9 x 8.9 mm)
signal-integrity model SN54ALS157AFK
pins: 2 ~{A}/B (in), 3 1A (in), 4 1B (in), 5 1Y (out), 7 2A (in), 8 2B (in), 9 2Y (out), 10 GND (power), 12 3Y (out), 13 3B (in), 14 3A (in), 15 4Y (out), 17 4B (in), 18 4A (in), 19 ~{OE} (in), 20 VCC (power)

## SN54ALS157AJ
designator U?
Quadruple 1-of-2 Data Selector/Multiplexer; Published: 8-Jun-2000; LatestRevisionDate: 04-Mar-2005; LatestRevisionNote: Stylized 3D Model Added.; DatasheetVersion: Dec-1994; PackageVersion: Jun-1999; PackageReference: J016; Publisher: Altium Limited; PackageDescription: DIP; 16 Leads; Row Spacing 7.62 mm; Pitch 2.54 mm; ComponentLink1Description: Manufacturer Link; ComponentLink1URL: http://www.ti.com/; ComponentLink2Description: Datasheet; ComponentLink2URL: http://www-s.ti.com/sc/ds/sn74als157a.pdf
footprint J016 (DIP; 16 Leads; Row Spacing 7.62 mm; Pitch 2.54 mm)
3D model J016 (DIP; 16 Leads; Row Spacing 7.62 mm; Pitch 2.54 mm)
signal-integrity model SN54ALS157AJ
pins: 1 ~{A}/B (in), 2 1A (in), 3 1B (in), 4 1Y (out), 5 2A (in), 6 2B (in), 7 2Y (out), 8 GND (power), 9 3Y (out), 10 3B (in), 11 3A (in), 12 4Y (out), 13 4B (in), 14 4A (in), 15 ~{OE} (in), 16 VCC (power)

## SN54ALS157FK
designator U?
Quadruple 1-of-2 Data Selector/Multiplexer; Note: Pins 1, 6, 11 and 16 are not connected and not drawn; Published: 8-Jun-2000; LatestRevisionDate: 17-Jul-2002; LatestRevisionNote: Re-released for DXP Platform.; DatasheetVersion: May-1986; PackageVersion: 1998; PackageReference: FK020; Publisher: Altium Limited; PackageDescription: Leadless Chip Carrier; 20 Terminals; Body 8.9 x 8.9 mm; ComponentLink1Description: Manufacturer Link; ComponentLink1URL: http://www.ti.com/
footprint FK020 (Leadless Chip Carrier; 20 Terminals; Body 8.9 x 8.9 mm)
signal-integrity model SN54ALS157FK
pins: 2 ~{A}/B (in), 3 1A (in), 4 1B (in), 5 1Y (out), 7 2A (in), 8 2B (in), 9 2Y (out), 10 GND (power), 12 3Y (out), 13 3B (in), 14 3A (in), 15 4Y (out), 17 4B (in), 18 4A (in), 19 ~{OE} (in), 20 VCC (power)

## SN54ALS157J
designator U?
Quadruple 1-of-2 Data Selector/Multiplexer; Published: 8-Jun-2000; LatestRevisionDate: 04-Mar-2005; LatestRevisionNote: Stylized 3D Model Added.; DatasheetVersion: May-1986; PackageVersion: Jun-1999; PackageReference: J016D; Publisher: Altium Limited; PackageDescription: DIP; 16 Leads; Row Spacing 7.62 mm; Pitch 2.54 mm; ComponentLink1Description: Manufacturer Link; ComponentLink1URL: http://www.ti.com/
footprint J016D (DIP; 16 Leads; Row Spacing 7.62 mm; Pitch 2.54 mm)
3D model J016 (DIP; 16 Leads; Row Spacing 7.62 mm; Pitch 2.54 mm)
signal-integrity model SN54ALS157J
pins: 1 ~{A}/B (in), 2 1A (in), 3 1B (in), 4 1Y (out), 5 2A (in), 6 2B (in), 7 2Y (out), 8 GND (power), 9 3Y (out), 10 3B (in), 11 3A (in), 12 4Y (out), 13 4B (in), 14 4A (in), 15 ~{OE} (in), 16 VCC (power)

## SN54ALS158FK
designator U?
Quadruple 1-of-2 Data Selector/Multiplexer; Note: Pins 1, 6, 11 and 16 are not connected and not drawn; Published: 8-Jun-2000; LatestRevisionDate: 17-Jul-2002; LatestRevisionNote: Re-released for DXP Platform.; DatasheetVersion: Dec-1994; PackageVersion: 1998; PackageReference: FK020; Publisher: Altium Limited; PackageDescription: Leadless Chip Carrier; 20 Terminals; Body 8.9 x 8.9 mm; ComponentLink1Description: Manufacturer Link; ComponentLink1URL: http://www.ti.com/; ComponentLink2Description: Datasheet; ComponentLink2URL: http://www-s.ti.com/sc/ds/sn74als157a.pdf
footprint FK020 (Leadless Chip Carrier; 20 Terminals; Body 8.9 x 8.9 mm)
signal-integrity model SN54ALS158FK
pins: 2 ~{A}/B (in), 3 1A (in), 4 1B (in), 5 1Y (out), 7 2A (in), 8 2B (in), 9 2Y (out), 10 GND (power), 12 3Y (out), 13 3B (in), 14 3A (in), 15 4Y (out), 17 4B (in), 18 4A (in), 19 ~{OE} (in), 20 VCC (power)

## SN54ALS158J
designator U?
Quadruple 1-of-2 Data Selector/Multiplexer; Published: 8-Jun-2000; LatestRevisionDate: 04-Mar-2005; LatestRevisionNote: Stylized 3D Model Added.; DatasheetVersion: Dec-1994; PackageVersion: Jun-1999; PackageReference: J016; Publisher: Altium Limited; PackageDescription: DIP; 16 Leads; Row Spacing 7.62 mm; Pitch 2.54 mm; ComponentLink1Description: Manufacturer Link; ComponentLink1URL: http://www.ti.com/; ComponentLink2Description: Datasheet; ComponentLink2URL: http://www-s.ti.com/sc/ds/sn74als157a.pdf
footprint J016 (DIP; 16 Leads; Row Spacing 7.62 mm; Pitch 2.54 mm)
3D model J016 (DIP; 16 Leads; Row Spacing 7.62 mm; Pitch 2.54 mm)
signal-integrity model SN54ALS158J
pins: 1 ~{A}/B (in), 2 1A (in), 3 1B (in), 4 1Y (out), 5 2A (in), 6 2B (in), 7 2Y (out), 8 GND (power), 9 3Y (out), 10 3B (in), 11 3A (in), 12 4Y (out), 13 4B (in), 14 4A (in), 15 ~{OE} (in), 16 VCC (power)

## SN54ALS251FK
designator U?
1-of-8 Data Selector/Multiplexer with 3-State Outputs; Note: Pins 1, 6, 11 and 16 are not connected and not drawn; Published: 8-Jun-2000; LatestRevisionDate: 17-Jul-2002; LatestRevisionNote: Re-released for DXP Platform.; DatasheetVersion: Dec-1994; PackageVersion: 1998; PackageReference: FK020; Publisher: Altium Limited; PackageDescription: Leadless Chip Carrier; 20 Terminals; Body 8.9 x 8.9 mm; ComponentLink1Description: Manufacturer Link; ComponentLink1URL: http://www.ti.com/; ComponentLink2Description: Datasheet; ComponentLink2URL: http://www-s.ti.com/sc/ds/sn74als251.pdf
footprint FK020 (Leadless Chip Carrier; 20 Terminals; Body 8.9 x 8.9 mm)
signal-integrity model SN54ALS251FK
pins: 2 D3 (in), 3 D2 (in), 4 D1 (in), 5 D0 (in), 7 Y (hiz), 8 W (hiz), 9 ~{OE} (in), 10 GND (power), 12 C (in), 13 B (in), 14 A (in), 15 D7 (in), 17 D6 (in), 18 D5 (in), 19 D4 (in), 20 VCC (power)

## SN54ALS251J
designator U?
1-of-8 Data Selector/Multiplexer with 3-State Outputs; Published: 8-Jun-2000; LatestRevisionDate: 04-Mar-2005; LatestRevisionNote: Stylized 3D Model Added.; DatasheetVersion: Dec-1994; PackageVersion: Jun-1999; PackageReference: J016; Publisher: Altium Limited; PackageDescription: DIP; 16 Leads; Row Spacing 7.62 mm; Pitch 2.54 mm; ComponentLink1Description: Manufacturer Link; ComponentLink1URL: http://www.ti.com/; ComponentLink2Description: Datasheet; ComponentLink2URL: http://www-s.ti.com/sc/ds/sn74als251.pdf
footprint J016 (DIP; 16 Leads; Row Spacing 7.62 mm; Pitch 2.54 mm)
3D model J016 (DIP; 16 Leads; Row Spacing 7.62 mm; Pitch 2.54 mm)
signal-integrity model SN54ALS251J
pins: 1 D3 (in), 2 D2 (in), 3 D1 (in), 4 D0 (in), 5 Y (hiz), 6 W (hiz), 7 ~{OE} (in), 8 GND (power), 9 C (in), 10 B (in), 11 A (in), 12 D7 (in), 13 D6 (in), 14 D5 (in), 15 D4 (in), 16 VCC (power)

## SN54ALS253FK
designator U?
Dual 1-of-4 Data Selector/Multiplexer with 3-State Outputs; Note: Pins 1, 6, 11 and 16 are not connected and not drawn; Published: 8-Jun-2000; LatestRevisionDate: 17-Jul-2002; LatestRevisionNote: Re-released for DXP Platform.; DatasheetVersion: Dec-1994; PackageVersion: 1998; PackageReference: FK020; Publisher: Altium Limited; PackageDescription: Leadless Chip Carrier; 20 Terminals; Body 8.9 x 8.9 mm; ComponentLink1Description: Manufacturer Link; ComponentLink1URL: http://www.ti.com/; ComponentLink2Description: Datasheet; ComponentLink2URL: http://www-s.ti.com/sc/ds/sn74as253a.pdf
footprint FK020 (Leadless Chip Carrier; 20 Terminals; Body 8.9 x 8.9 mm)
signal-integrity model SN54ALS253FK
pins: 2 ~{1OE} (in), 3 B (in), 4 1C3 (in), 5 1C2 (in), 7 1C1 (in), 8 1C0 (in), 9 Y1 (hiz), 10 GND (power), 12 Y2 (hiz), 13 2C0 (in), 14 2C1 (in), 15 2C2 (in), 17 2C3 (in), 18 A (in), 19 ~{2OE} (in), 20 VCC (power)

## SN54ALS253J
designator U?
Dual 1-of-4 Data Selector/Multiplexer with 3-State Outputs; Published: 8-Jun-2000; LatestRevisionDate: 04-Mar-2005; LatestRevisionNote: Stylized 3D Model Added.; DatasheetVersion: Dec-1994; PackageVersion: Jun-1999; PackageReference: J016; Publisher: Altium Limited; PackageDescription: DIP; 16 Leads; Row Spacing 7.62 mm; Pitch 2.54 mm; ComponentLink1Description: Manufacturer Link; ComponentLink1URL: http://www.ti.com/; ComponentLink2Description: Datasheet; ComponentLink2URL: http://www-s.ti.com/sc/ds/sn74as253a.pdf
footprint J016 (DIP; 16 Leads; Row Spacing 7.62 mm; Pitch 2.54 mm)
3D model J016 (DIP; 16 Leads; Row Spacing 7.62 mm; Pitch 2.54 mm)
signal-integrity model SN54ALS253J
pins: 1 ~{1OE} (in), 2 B (in), 3 1C3 (in), 4 1C2 (in), 5 1C1 (in), 6 1C0 (in), 7 Y1 (hiz), 8 GND (power), 9 Y2 (hiz), 10 2C0 (in), 11 2C1 (in), 12 2C2 (in), 13 2C3 (in), 14 A (in), 15 ~{2OE} (in), 16 VCC (power)

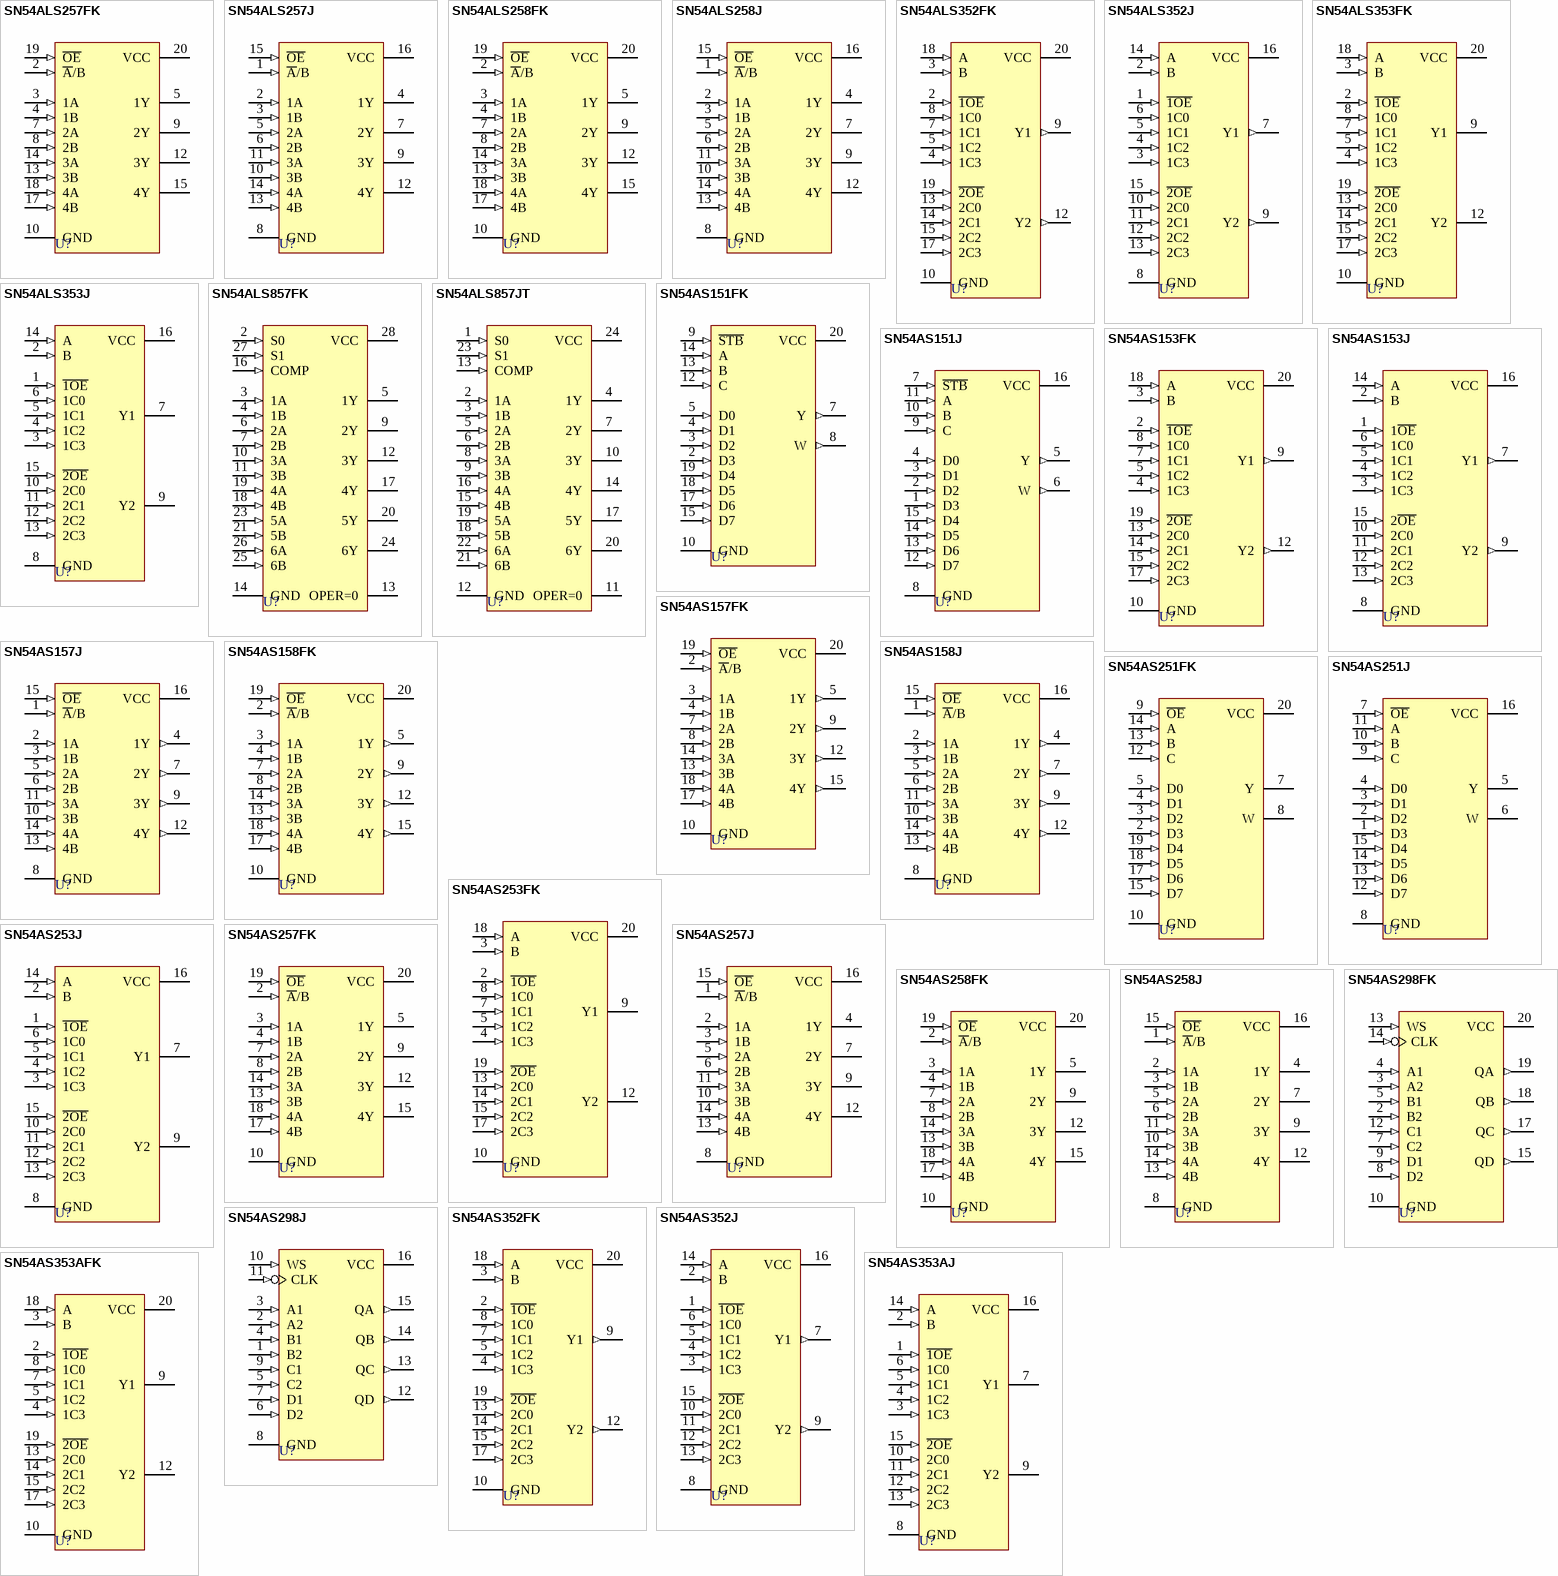
[diagram p3: symbols SN54ALS257FK to SN54AS353AJ]

## SN54ALS257FK
designator U?
Quadruple 2-Line to 1-Line Data Selector/Multiplexer with 3-State Outputs; Note: Pins 1, 6, 11 and 16 are not connected and not drawn; Published: 8-Jun-2000; LatestRevisionDate: 17-Jul-2002; LatestRevisionNote: Re-released for DXP Platform.; DatasheetVersion: Dec-1994; PackageVersion: 1998; PackageReference: FK020; Publisher: Altium Limited; PackageDescription: Leadless Chip Carrier; 20 Terminals; Body 8.9 x 8.9 mm; ComponentLink1Description: Manufacturer Link; ComponentLink1URL: http://www.ti.com/; ComponentLink2Description: Datasheet; ComponentLink2URL: http://www-s.ti.com/sc/ds/sn74als257a.pdf
footprint FK020 (Leadless Chip Carrier; 20 Terminals; Body 8.9 x 8.9 mm)
signal-integrity model SN54ALS257FK
pins: 2 ~{A}/B (in), 3 1A (in), 4 1B (in), 5 1Y (hiz), 7 2A (in), 8 2B (in), 9 2Y (hiz), 10 GND (power), 12 3Y (hiz), 13 3B (in), 14 3A (in), 15 4Y (hiz), 17 4B (in), 18 4A (in), 19 ~{OE} (in), 20 VCC (power)

## SN54ALS257J
designator U?
Quadruple 2-Line to 1-Line Data Selector/Multiplexer with 3-State Outputs; Published: 8-Jun-2000; LatestRevisionDate: 04-Mar-2005; LatestRevisionNote: Stylized 3D Model Added.; DatasheetVersion: Dec-1994; PackageVersion: Jun-1999; PackageReference: J016; Publisher: Altium Limited; PackageDescription: DIP; 16 Leads; Row Spacing 7.62 mm; Pitch 2.54 mm; ComponentLink1Description: Manufacturer Link; ComponentLink1URL: http://www.ti.com/; ComponentLink2Description: Datasheet; ComponentLink2URL: http://www-s.ti.com/sc/ds/sn74als257a.pdf
footprint J016 (DIP; 16 Leads; Row Spacing 7.62 mm; Pitch 2.54 mm)
3D model J016 (DIP; 16 Leads; Row Spacing 7.62 mm; Pitch 2.54 mm)
signal-integrity model SN54ALS257J
pins: 1 ~{A}/B (in), 2 1A (in), 3 1B (in), 4 1Y (hiz), 5 2A (in), 6 2B (in), 7 2Y (hiz), 8 GND (power), 9 3Y (hiz), 10 3B (in), 11 3A (in), 12 4Y (hiz), 13 4B (in), 14 4A (in), 15 ~{OE} (in), 16 VCC (power)

## SN54ALS258FK
designator U?
Quadruple 2-Line to 1-Line Data Selector/Multiplexer with 3-State Outputs; Note: Pins No 1,6,11 and 16 are not connected; Published: 8-Jun-2000; LatestRevisionDate: 17-Jul-2002; LatestRevisionNote: Re-released for DXP Platform.; DatasheetVersion: Dec-1994; PackageVersion: 1998; PackageReference: FK020; Publisher: Altium Limited; PackageDescription: Leadless Chip Carrier; 20 Terminals; Body 8.9 x 8.9 mm; ComponentLink1Description: Manufacturer Link; ComponentLink1URL: http://www.ti.com/; ComponentLink2Description: Datasheet; ComponentLink2URL: http://www-s.ti.com/sc/ds/sn74als257a.pdf
footprint FK020 (Leadless Chip Carrier; 20 Terminals; Body 8.9 x 8.9 mm)
signal-integrity model SN54ALS258FK
pins: 2 ~{A}/B (in), 3 1A (in), 4 1B (in), 5 1Y (hiz), 7 2A (in), 8 2B (in), 9 2Y (hiz), 10 GND (power), 12 3Y (hiz), 13 3B (in), 14 3A (in), 15 4Y (hiz), 17 4B (in), 18 4A (in), 19 ~{OE} (in), 20 VCC (power)

## SN54ALS258J
designator U?
Quadruple 2-Line to 1-Line Data Selector/Multiplexer with 3-State Outputs; Published: 8-Jun-2000; LatestRevisionDate: 04-Mar-2005; LatestRevisionNote: Stylized 3D Model Added.; DatasheetVersion: Dec-1994; PackageVersion: Jun-1999; PackageReference: J016; Publisher: Altium Limited; PackageDescription: DIP; 16 Leads; Row Spacing 7.62 mm; Pitch 2.54 mm; ComponentLink1Description: Manufacturer Link; ComponentLink1URL: http://www.ti.com/; ComponentLink2Description: Datasheet; ComponentLink2URL: http://www-s.ti.com/sc/ds/sn74als257a.pdf
footprint J016 (DIP; 16 Leads; Row Spacing 7.62 mm; Pitch 2.54 mm)
3D model J016 (DIP; 16 Leads; Row Spacing 7.62 mm; Pitch 2.54 mm)
signal-integrity model SN54ALS258J
pins: 1 ~{A}/B (in), 2 1A (in), 3 1B (in), 4 1Y (hiz), 5 2A (in), 6 2B (in), 7 2Y (hiz), 8 GND (power), 9 3Y (hiz), 10 3B (in), 11 3A (in), 12 4Y (hiz), 13 4B (in), 14 4A (in), 15 ~{OE} (in), 16 VCC (power)

## SN54ALS352FK
designator U?
Dual 4-Line to 1-Line Data Selector/Multiplexer; Note: Pins 1, 6, 11 and 16 are not connected and not drawn; ComponentAvailability: Not Available; Published: 8-Jun-2000; LatestRevisionDate: 17-Jul-2002; LatestRevisionNote: Re-released for DXP Platform.; DatasheetVersion: Dec-1994; PackageVersion: 1998; PackageReference: FK020; Publisher: Altium Limited; PackageDescription: Leadless Chip Carrier; 20 Terminals; Body 8.9 x 8.9 mm; ComponentLink1Description: Manufacturer Link; ComponentLink1URL: http://www.ti.com/; ComponentLink2Description: Datasheet; ComponentLink2URL: http://www-s.ti.com/sc/ds/sn74als352.pdf; ComponentLink3Description: Discontinuation Notice; ComponentLink3URL: http://focus.ti.com/pdfs/mltry/obsolete.pdf
footprint FK020 (Leadless Chip Carrier; 20 Terminals; Body 8.9 x 8.9 mm)
signal-integrity model SN54ALS352FK
pins: 2 ~{1OE} (in), 3 B (in), 4 1C3 (in), 5 1C2 (in), 7 1C1 (in), 8 1C0 (in), 9 Y1 (out), 10 GND (power), 12 Y2 (out), 13 2C0 (in), 14 2C1 (in), 15 2C2 (in), 17 2C3 (in), 18 A (in), 19 ~{2OE} (in), 20 VCC (power)

## SN54ALS352J
designator U?
Dual 4-Line to 1-Line Data Selector/Multiplexer; ComponentAvailability: Not Available; Published: 8-Jun-2000; LatestRevisionDate: 04-Mar-2005; LatestRevisionNote: Stylized 3D Model Added.; DatasheetVersion: Dec-1994; PackageVersion: Jun-1999; PackageReference: J016; Publisher: Altium Limited; PackageDescription: DIP; 16 Leads; Row Spacing 7.62 mm; Pitch 2.54 mm; ComponentLink1Description: Manufacturer Link; ComponentLink1URL: http://www.ti.com/; ComponentLink2Description: Datasheet; ComponentLink2URL: http://www-s.ti.com/sc/ds/sn74als352.pdf; ComponentLink3Description: Discontinuation Notice; ComponentLink3URL: http://focus.ti.com/pdfs/mltry/obsolete.pdf
footprint J016 (DIP; 16 Leads; Row Spacing 7.62 mm; Pitch 2.54 mm)
3D model J016 (DIP; 16 Leads; Row Spacing 7.62 mm; Pitch 2.54 mm)
signal-integrity model SN54ALS352J
pins: 1 ~{1OE} (in), 2 B (in), 3 1C3 (in), 4 1C2 (in), 5 1C1 (in), 6 1C0 (in), 7 Y1 (out), 8 GND (power), 9 Y2 (out), 10 2C0 (in), 11 2C1 (in), 12 2C2 (in), 13 2C3 (in), 14 A (in), 15 ~{2OE} (in), 16 VCC (power)

## SN54ALS353FK
designator U?
Dual 1-of-4 Data Selector/Multiplexer with 3-State Outputs; Note: Pins 1, 6, 11 and 16 are not connected and not drawn; Published: 8-Jun-2000; LatestRevisionDate: 17-Jul-2002; LatestRevisionNote: Re-released for DXP Platform.; DatasheetVersion: May-1986; PackageVersion: 1998; PackageReference: FK020; Publisher: Altium Limited; PackageDescription: Leadless Chip Carrier; 20 Terminals; Body 8.9 x 8.9 mm; ComponentLink1Description: Manufacturer Link; ComponentLink1URL: http://www.ti.com/
footprint FK020 (Leadless Chip Carrier; 20 Terminals; Body 8.9 x 8.9 mm)
signal-integrity model SN54ALS353FK
pins: 2 ~{1OE} (in), 3 B (in), 4 1C3 (in), 5 1C2 (in), 7 1C1 (in), 8 1C0 (in), 9 Y1 (hiz), 10 GND (power), 12 Y2 (hiz), 13 2C0 (in), 14 2C1 (in), 15 2C2 (in), 17 2C3 (in), 18 A (in), 19 ~{2OE} (in), 20 VCC (power)

## SN54ALS353J
designator U?
Dual 1-of-4 Data Selector/Multiplexer with 3-State Outputs; Published: 8-Jun-2000; LatestRevisionDate: 04-Mar-2005; LatestRevisionNote: Stylized 3D Model Added.; DatasheetVersion: May-1986; PackageVersion: Jun-1999; PackageReference: J016D; Publisher: Altium Limited; PackageDescription: DIP; 16 Leads; Row Spacing 7.62 mm; Pitch 2.54 mm; ComponentLink1Description: Manufacturer Link; ComponentLink1URL: http://www.ti.com/
footprint J016D (DIP; 16 Leads; Row Spacing 7.62 mm; Pitch 2.54 mm)
3D model J016 (DIP; 16 Leads; Row Spacing 7.62 mm; Pitch 2.54 mm)
signal-integrity model SN54ALS353J
pins: 1 ~{1OE} (in), 2 B (in), 3 1C3 (in), 4 1C2 (in), 5 1C1 (in), 6 1C0 (in), 7 Y1 (hiz), 8 GND (power), 9 Y2 (hiz), 10 2C0 (in), 11 2C1 (in), 12 2C2 (in), 13 2C3 (in), 14 A (in), 15 ~{2OE} (in), 16 VCC (power)

## SN54ALS857FK
designator U?
Hex 2-to-1 Universal Multiplexer with 3-State Outputs; Note: Pins 1, 8, 15 and 22 are not connected and not drawn; Published: 8-Jun-2000; LatestRevisionDate: 17-Jul-2002; LatestRevisionNote: Re-released for DXP Platform.; DatasheetVersion: Jan-1995; PackageVersion: 1998; PackageReference: FK028; Publisher: Altium Limited; PackageDescription: Leadless Chip Carrier; 28 Terminals; Body 11.4 x 11.4 mm; ComponentLink1Description: Manufacturer Link; ComponentLink1URL: http://www.ti.com/; ComponentLink2Description: Datasheet; ComponentLink2URL: http://www-s.ti.com/sc/ds/sn74als857.pdf
footprint FK028 (Leadless Chip Carrier; 28 Terminals; Body 11.4 x 11.4 mm)
signal-integrity model SN54ALS857FK
pins: 2 S0 (in), 3 1A (in), 4 1B (in), 5 1Y (hiz), 6 2A (in), 7 2B (in), 9 2Y (hiz), 10 3A (in), 11 3B (in), 12 3Y (hiz), 13 OPER=0 (hiz), 14 GND (power), 16 COMP (in), 17 4Y (hiz), 18 4B (in), 19 4A (in), 20 5Y (hiz), 21 5B (in), 23 5A (in), 24 6Y (hiz), 25 6B (in), 26 6A (in), 27 S1 (in), 28 VCC (power)

## SN54ALS857JT
designator U?
Hex 2-to-1 Universal Multiplexer with 3-State Outputs; Published: 8-Jun-2000; LatestRevisionDate: 04-Mar-2005; LatestRevisionNote: Stylized 3D Model Added.; DatasheetVersion: Jan-1995; PackageVersion: Jan-1997; PackageReference: JT024; Publisher: Altium Limited; PackageDescription: DIP; 24 Leads; Row Spacing 7.62 mm; Pitch 2.54 mm; Code_JEDEC: MS-001-AF; ComponentLink1Description: Manufacturer Link; ComponentLink1URL: http://www.ti.com/; ComponentLink2Description: Datasheet; ComponentLink2URL: http://www-s.ti.com/sc/ds/sn74als857.pdf
footprint JT024 (DIP; 24 Leads; Row Spacing 7.62 mm; Pitch 2.54 mm)
3D model JT024 (DIP; 24 Leads; Row Spacing 7.62 mm; Pitch 2.54 mm)
signal-integrity model SN54ALS857JT
pins: 1 S0 (in), 2 1A (in), 3 1B (in), 4 1Y (hiz), 5 2A (in), 6 2B (in), 7 2Y (hiz), 8 3A (in), 9 3B (in), 10 3Y (hiz), 11 OPER=0 (hiz), 12 GND (power), 13 COMP (in), 14 4Y (hiz), 15 4B (in), 16 4A (in), 17 5Y (hiz), 18 5B (in), 19 5A (in), 20 6Y (hiz), 21 6B (in), 22 6A (in), 23 S1 (in), 24 VCC (power)

## SN54AS151FK
designator U?
1-of-8 Data Selector/Multiplexer; Note: Pins 1, 6, 11 and 16 are not connected and not drawn; Published: 8-Jun-2000; LatestRevisionDate: 17-Jul-2002; LatestRevisionNote: Re-released for DXP Platform.; DatasheetVersion: May-1986; PackageVersion: 1998; PackageReference: FK020; Publisher: Altium Limited; PackageDescription: Leadless Chip Carrier; 20 Terminals; Body 8.9 x 8.9 mm; ComponentLink1Description: Manufacturer Link; ComponentLink1URL: http://www.ti.com/
footprint FK020 (Leadless Chip Carrier; 20 Terminals; Body 8.9 x 8.9 mm)
signal-integrity model SN54AS151FK
pins: 2 D3 (in), 3 D2 (in), 4 D1 (in), 5 D0 (in), 7 Y (out), 8 W (out), 9 ~{STB} (in), 10 GND (power), 12 C (in), 13 B (in), 14 A (in), 15 D7 (in), 17 D6 (in), 18 D5 (in), 19 D4 (in), 20 VCC (power)